# EAGLE library part ARDUINO_NANO_GENERIC (library myFab)
Arduino Nano
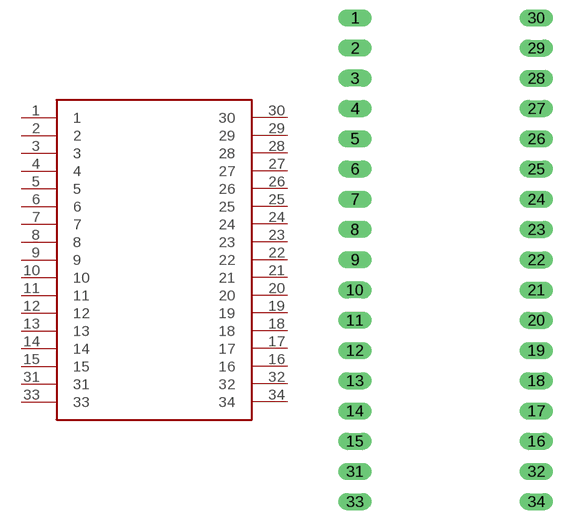
[diagram p31: symbol with the pads of ARDUINO_NANO_GENERIC; footprint ARDUINO_NANO_GENERIC]

Designator prefix -

## ARDUINO_NANO_GENERIC  [ARDUINO_NANO_GENERIC]
1  1
2  2
3  3
4  4
5  5
6  6
7  7
8  8
9  9
10  10
11  11
12  12
13  13
14  14
15  15
16  16
17  17
18  18
19  19
20  20
21  21
22  22
23  23
24  24
25  25
26  26
27  27
28  28
29  29
30  30
31  31
32  32
33  33
34  34

## Footprint ARDUINO_NANO_GENERIC (pad centres in mm)
drill 0.9 long: 1 -7.62,17.78; 2 -7.62,15.24; 3 -7.62,12.7; 4 -7.62,10.16; 5 -7.62,7.62; 6 -7.62,5.08; 7 -7.62,2.54; 8 -7.62,0; 9 -7.62,-2.54; 10 -7.62,-5.08; 11 -7.62,-7.62; 12 -7.62,-10.16; 13 -7.62,-12.7; 14 -7.62,-15.24; 15 -7.62,-17.78; 16 7.62,-17.78; 17 7.62,-15.24; 18 7.62,-12.7; 19 7.62,-10.16; 20 7.62,-7.62; 21 7.62,-5.08; 22 7.62,-2.54; 23 7.62,0; 24 7.62,2.54; 25 7.62,5.08; 26 7.62,7.62; 27 7.62,10.16; 28 7.62,12.7; 29 7.62,15.24; 30 7.62,17.78; 31 -7.62,-20.32; 32 7.62,-20.32; 33 -7.62,-22.86; 34 7.62,-22.86